# Altium footprint library PcbLib1.PcbLib: 202 footprints (part 1 of 13)
Each footprint in its own frame and in the unit in brackets; x right, y up, seen from the top. Pads: shape width x height; smd on the part's side, far side on the other; paste and mask are expansions set on the pad; w line width, h text height; cw(c..) or ccw(c..) is an arc to the next point about the centre after c.
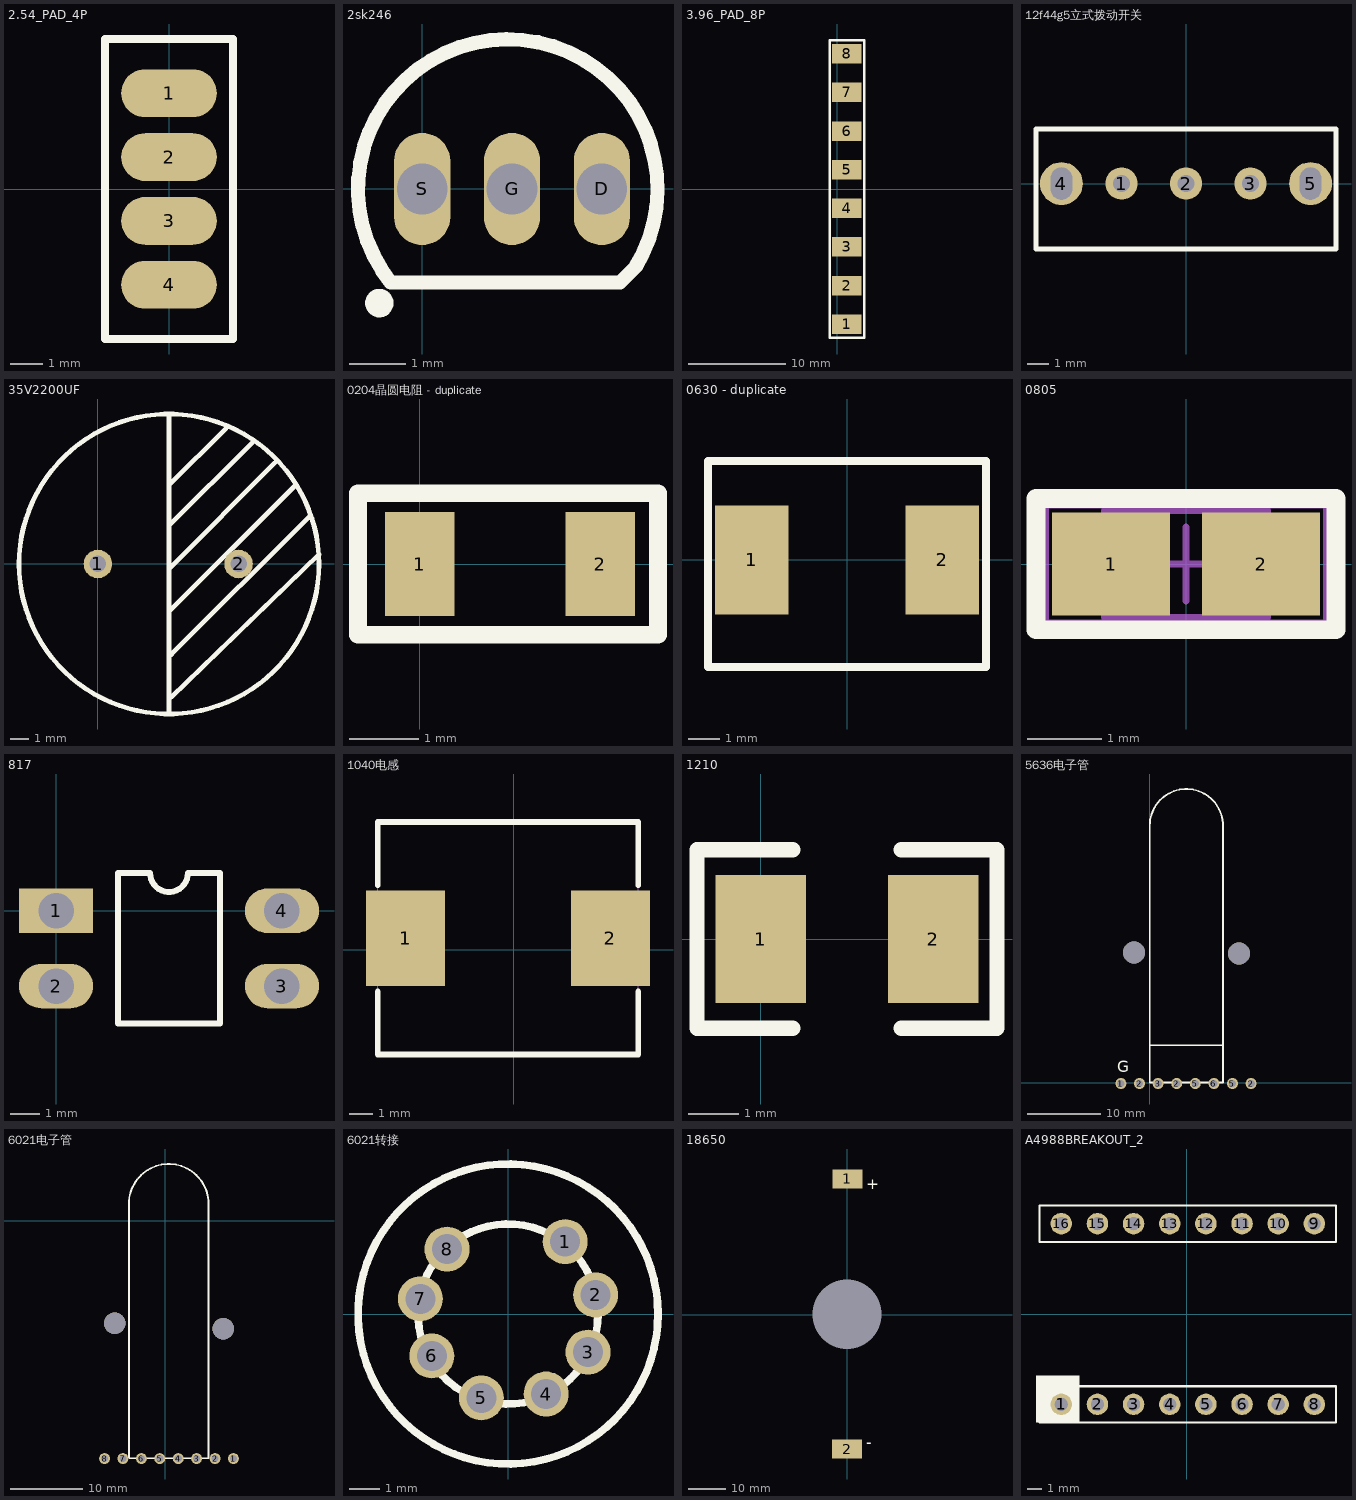
[diagram p0: the footprints below, top view; thin cyan lines are the x and y axes]

## 2.54_PAD_4P [mm]
pads (4):
  oval 3x1.5 smd paste+0 mask+0.2: 1(0,3) 2(0,1) 3(0,-1) 4(0,-3)
Top Overlay:
  lines w0.254: -2,-4.698 2,-4.698 2,4.698 -2,4.698 -2,-4.698

## 2sk246 [mm]
pads (3):
  oval 1x2 hole 0.9: D(3.2,0) G(1.6,0) S(0,0)
Top Overlay:
  circle w0.254: c-0.762,-2.032 r0.127
  lines w0.254: -0.559,-1.666 cw(c1.524,0) 3.8,-1.391 3.524,-1.666 -0.559,-1.666

## 3.96_PAD_8P [mm]
pads (8):
  rect 3.048x2 smd paste+0 mask+0.051: 1(0.987,-13.859) 2(0.987,-9.9) 3(0.987,-5.939) 4(0.987,-1.98) 5(0.987,1.98) 6(0.987,5.94) 7(0.987,9.9) 8(0.987,13.86)
Top Overlay:
  lines w0.254: -0.762,-15.24 2.794,-15.24 2.794,15.24 -0.762,15.24 -0.762,-15.24

## 12f44g5立式拨动开关 [mm]
pads (5):
  round 1.5 hole 0.8: 1(-3,0) 2(0,0) 3(3,0)
  round 2 hole 1 slot 1.5 at 90 deg: 4(-5.8,0) 5(5.8,0)
Top Overlay:
  lines w0.254: 6.985,2.452 6.985,-3.048 -6.985,-3.048 -6.985,2.54 6.985,2.54

## 35V2200UF [mil]
pads (2):
  round 60 hole 34.65: 1(0,0) 2(295.28,0)
Top Overlay:
  circle w10: c149.21,0 r314.96
  lines w10: 149.21,-315 149.21,310 ; 149.21,-100 411.71,162.5 ; 149.21,80 324.21,255 ; 149.21,165 269.21,285 ; 151.71,-7.5 371.71,212.5 ; 153.68,-279.63 464.21,20 ; 154.21,-190 441.71,97.5

## 0204晶圆电阻 - duplicate [mm]
pads (2):
  rect 1x1.5 smd: 1(0,0) 2(2.6,0)
Top Overlay:
  lines w0.254: -0.889,-1.016 -0.889,1.016 3.429,1.016 3.429,-1.016 -0.889,-1.016

## 0630 - duplicate [mm]
pads (2):
  rect 2.35x3.5 smd: 1(-3.048,0) 2(3.048,0)
Top Overlay:
  lines w0.254: -4.445,-3.429 -4.445,3.171 4.445,3.171 4.445,-3.429 -4.445,-3.429

## 0805 [mm] "Chip Capacitor, Body 2.0x1.3mm, IPC High Density"
height 1.4
pads (2):
  rect 1.6x1.4 smd: 1(-1.016,0) 2(1.016,0)
Top Overlay:
  lines w0.254: -2.032,-0.889 -2.032,0.889 2.032,0.889 2.032,-0.889 -2.032,-0.889
Mechanical 13:
  lines w0.1: -1.1,-0.725 -1.1,0.725 1.1,0.725 1.1,-0.725 -1.1,-0.725
Mechanical 15:
  lines w0.1: -0.5,0 0.5,0 ; 0,-0.5 0,0.5 ; -1.905,-0.8 -1.905,0.8 1.905,0.8 1.905,-0.8 -1.905,-0.8
3D body: height 1.4, standoff 0, extent -1.1,-0.725 1.1,0.725

## 817 [mm]
pads (4):
  rect 2.5x1.5 hole 1.2: 1(0,0)
  oval 2.5x1.5 hole 1.2: 2(0,-2.54) 3(7.62,-2.54) 4(7.62,0)
Top Overlay:
  lines w0.2: 2.085,-3.81 2.085,1.27 3.175,1.27 ccw(c3.81,1.27) 4.445,1.27 5.535,1.27 5.535,-3.81 2.085,-3.81

## 1040电感 [mm]
pads (2):
  rect 3.4x4.1 smd mask+0.051: 1(-4.65,0.488) 2(4.15,0.488)
Top Overlay:
  lines w0.254: -5.85,-1.793 -5.85,-4.512 5.35,-4.512 5.35,-1.793 ; -5.85,2.769 -5.85,5.488 5.35,5.488 5.35,2.769
Mechanical 15:
  region: -5.79,-4.512 -5.79,-4.487 -5.825,-4.452 -5.875,-4.452 -5.91,-4.487 -5.91,-4.512 -5.91,-4.537 -5.875,-4.572 -5.825,-4.572 -5.79,-4.537
  region: -5.85,1.988 -3.85,1.988 -3.85,-1.012 -5.85,-1.012
  region: 3.35,1.988 5.35,1.988 5.35,-1.012 3.35,-1.012
  lines w0.051: -5.85,-4.512 5.35,-4.512 5.35,5.488 -5.85,5.488 -5.85,-4.512

## 1210 [mm]
pads (2):
  rect 1.8x2.54 smd: 1(0,0) 2(3.429,0)
Top Overlay:
  lines w0.305: 0.635,-1.778 -1.27,-1.778 -1.27,1.778 0.635,1.778 ; 2.794,-1.778 4.699,-1.778 4.699,1.778 2.794,1.778

## 5636电子管 [mm]
pads (8):
  round 1.5 hole 1: 1(-3.937,-0.127) 2(-1.397,-0.127) 2(3.683,-0.127) 2(13.843,-0.127) 3(1.143,-0.127) 5(6.223,-0.127) 5(11.303,-0.127) 6(8.763,-0.127)
via 12.192,17.653 diameter 3 hole 3
via -2.159,17.78 diameter 3 hole 3
Top Overlay:
  lines w0.254: 0,5 0,0 9.967,0 ; 10,0.033 10,5.094 ; 10,5.094 0,5.094 0,35.094 cw(c5,35.094) 10,35.094 10,5.094
  text "G" at -4.445,1.397 h1.52

## 6021电子管 [mm]
pads (8):
  round 1.5 hole 1: 1(9.398,-32.766) 2(6.858,-32.766) 3(4.318,-32.766) 4(1.778,-32.766) 5(-0.762,-32.766) 6(-3.302,-32.766) 7(-5.842,-32.766) 8(-8.382,-32.766)
via -6.985,-14.097 diameter 3 hole 3
via 8.001,-14.859 diameter 3 hole 3
Top Overlay:
  lines w0.254: -5.031,2.361 cw(c0.469,2.361) 5.969,2.361 5.969,-32.714 -4.904,-32.714 -5.031,-32.587 -5.031,2.413

## 6021转接 [mm]
pads (8):
  round 1.5 hole 1: 1(1.905,2.413) 2(2.921,0.635) 3(2.667,-1.27) 4(1.27,-2.667) 5(-0.889,-2.794) 6(-2.54,-1.397) 7(-2.921,0.508) 8(-2.032,2.159)
Top Overlay:
  circle w0.254: c0,0 r3
  circle w0.254: c0,0 r5

## 18650 [mm]
pads (3):
  rect 8x5 smd: 1(0.127,36.195) 2(0,-35.814)
  rect 0.8x1.6 hole 18.5 square: 7(0,0.127)
Top Overlay:
  text "-" at 5.08,-35.433 h3
  text "+" at 5.08,33.401 h3

## A4988BREAKOUT_2 [mil]
pads (16):
  round 59.43 hole 35.44 slot 35.45 at 90 deg paste-99999 mask+2: 1(-346.5,-250) 2(-246.5,-250) 3(-146.5,-250) 4(-46.5,-250) 5(53.5,-250) 6(153.5,-250) 7(253.5,-250) 8(353.5,-250) 9(353.5,250) 10(253.5,250) 11(153.5,250) 12(53.5,250) 13(-46.5,250) 14(-146.5,250) 15(-246.5,250) 16(-346.5,250)
Top Overlay:
  rectangle: -416.5,-300 -296.5,-170
  lines w5.91: -406.5,-200 413.5,-200 ; -406.5,199 413.5,199
  lines w6: -406.5,-200 -406.5,-300 413.5,-300 413.5,-200 ; -406.5,199 -406.5,300 413.5,300 413.5,200
Bottom Overlay:
  text "DIR" at 365.7,-140 h23.62
  text "STEP" at 265.7,-140 h23.62
  text "SLP" at 165.7,-140 h23.62
  text "RST" at 65.7,-140 h23.62
  text "MS3" at -34.3,-140 h23.62
  text "MS2" at -134.3,-140 h23.62
  text "MS1" at -234.3,-140 h23.62
  text "EN" at -324.69,-140 h23.62
  text "GND" at 369.84,179.92 h23.62
  text "VDD" at 268.74,179.92 h23.62
  text "1B" at 167.64,179.92 h23.62
  text "1A" at 72.69,170.95 h23.62
  text "2A" at -34.55,179.91 h23.62
  text "2B" at -135.65,179.91 h23.62
  text "GND" at -236.74,180 h23.62
  text "Vmot" at -324.69,180 h23.62